# Altium footprint library CONN-TH_9P-P3.50_KF2EDGR-3.5-9P.PcbLib: 1 footprints
Each footprint in its own frame and in the unit in brackets; x right, y up, seen from the top. Pads: shape width x height; smd on the part's side, far side on the other; paste and mask are expansions set on the pad; w line width, h text height; cw(c..) or ccw(c..) is an arc to the next point about the centre after c.
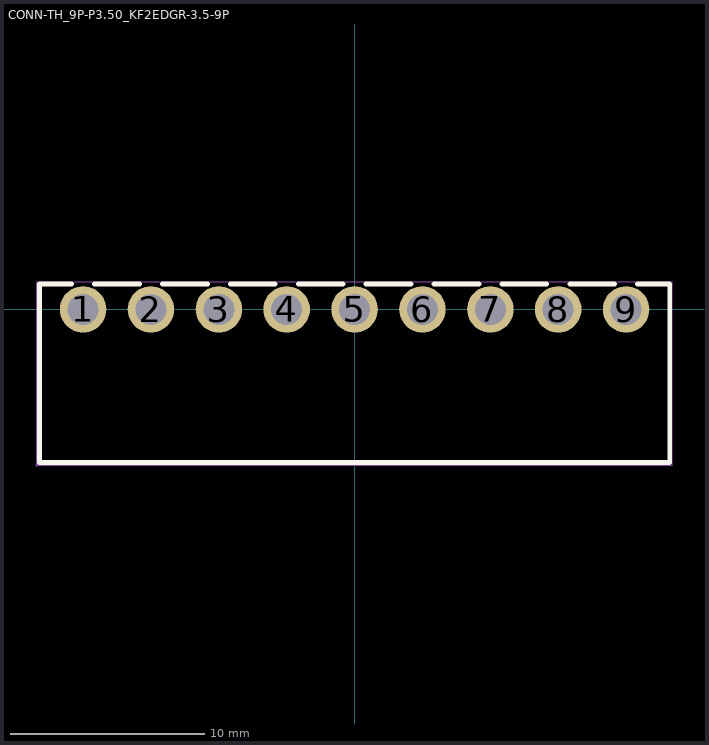
[diagram p0: the footprint, top view; thin cyan lines are the x and y axes]

## CONN-TH_9P-P3.50_KF2EDGR-3.5-9P [mm]
pads (9):
  round 2.4 hole 1.6: 1(-14,0) 2(-10.5,0) 3(-7,0) 4(-3.5,0) 5(0,0) 6(3.5,0) 7(7,0) 8(10.5,0) 9(14,0)
Top Overlay:
  lines w0.254: -14.595,1.3 -16.25,1.3 -16.25,-7.9 16.25,-7.9 16.25,1.3 14.595,1.3 ; -13.405,1.3 -11.095,1.3 ; -9.905,1.3 -7.595,1.3 ; -6.405,1.3 -4.095,1.3 ; -2.905,1.3 -0.595,1.3 ; 0.595,1.3 2.905,1.3 ; 4.095,1.3 6.405,1.3 ; 7.595,1.3 9.905,1.3 ; 11.095,1.3 13.405,1.3
Mechanical 15:
  drawing of 14 lines, arcs and shapes, not listed